# EAGLE library part C_ARRAY (library OpenMotics)
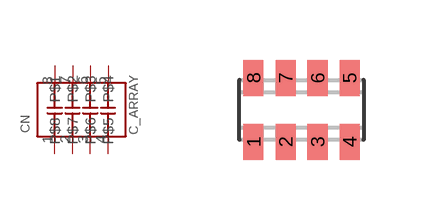
[diagram p40: symbol with the pads of C_ARRAY; footprint C_ARRAY]

Designator prefix CN

## C_ARRAY  [C_ARRAY]
1  P$1
2  P$2
3  P$3
4  P$4
5  P$5
6  P$6
7  P$7
8  P$8

## Footprint C_ARRAY (pad centres in mm)
smd 0.5 x 0.9: 1 -1.2,-0.8; 2 -0.4,-0.8; 3 0.4,-0.8; 4 1.2,-0.8; 5 1.2,0.8; 6 0.4,0.8; 7 -0.4,0.8; 8 -1.2,0.8